# EAGLE library part 80C187 (library micro-intel)
MICROCOMPUTER/PERIPHERAL DEVICE
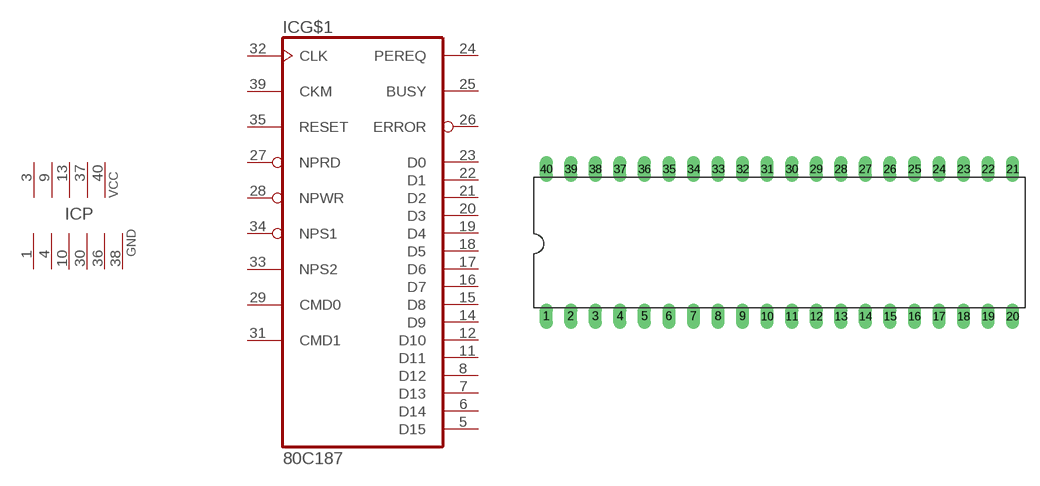
[diagram p13: symbol with the pads of DIL40; footprint DIL40]

Designator prefix IC; gates G$1=80C187 P=5PWR6GND

## 80C187 (OC_FARNELL: unknown; OC_NEWARK: unknown)  [DIL40]
1  P:GND  pwr
3  P:VCC  pwr
4  P:GND  pwr
5  G$1:D15
6  G$1:D14
7  G$1:D13
8  G$1:D12
9  P:VCC  pwr
10  P:GND  pwr
11  G$1:D11
12  G$1:D10
13  P:VCC  pwr
14  G$1:D9
15  G$1:D8
16  G$1:D7
17  G$1:D6
18  G$1:D5
19  G$1:D4
20  G$1:D3
21  G$1:D2
22  G$1:D1
23  G$1:D0
24  G$1:PEREQ  out
25  G$1:BUSY  out
26  G$1:ERROR  out
27  G$1:NPRD  in
28  G$1:NPWR  in
29  G$1:CMD0  in
30  P:GND  pwr
31  G$1:CMD1  in
32  G$1:CLK  in
33  G$1:NPS2  in
34  G$1:NPS1  in
35  G$1:RESET  in
36  P:GND  pwr
37  P:VCC  pwr
38  P:GND  pwr
39  G$1:CKM  in
40  P:VCC  pwr

## Footprint DIL40 (pad centres in mm)
Dual In Line Package
drill 0.813 long: 1 -24.13,-7.62; 2 -21.59,-7.62; 3 -19.05,-7.62; 4 -16.51,-7.62; 5 -13.97,-7.62; 6 -11.43,-7.62; 7 -8.89,-7.62; 8 -6.35,-7.62; 9 -3.81,-7.62; 10 -1.27,-7.62; 11 1.27,-7.62; 12 3.81,-7.62; 13 6.35,-7.62; 14 8.89,-7.62; 15 11.43,-7.62; 16 13.97,-7.62; 17 16.51,-7.62; 18 19.05,-7.62; 19 21.59,-7.62; 20 24.13,-7.62; 21 24.13,7.62; 22 21.59,7.62; 23 19.05,7.62; 24 16.51,7.62; 25 13.97,7.62; 26 11.43,7.62; 27 8.89,7.62; 28 6.35,7.62; 29 3.81,7.62; 30 1.27,7.62; 31 -1.27,7.62; 32 -3.81,7.62; 33 -6.35,7.62; 34 -8.89,7.62; 35 -11.43,7.62; 36 -13.97,7.62; 37 -16.51,7.62; 38 -19.05,7.62; 39 -21.59,7.62; 40 -24.13,7.62